# EAGLE library part LM3914 (library #PaJa_31)
Budic sloupce LED - linearni - bod/pas
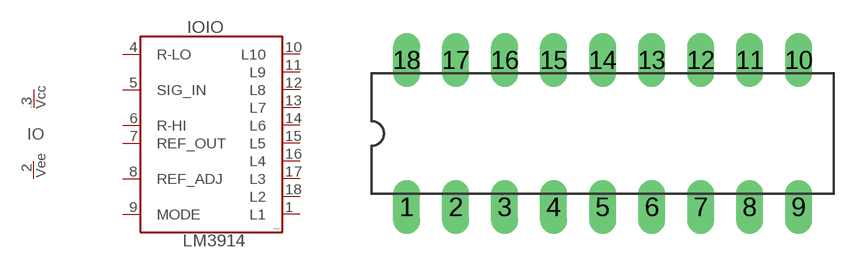
[diagram p39: symbol with the pads of DIL18A; footprint DIL18A]

Designator prefix IO; gates IO=LM3914 N=POWER_SY

## LM3914  [DIL18A]
1  IO:L1  out
2  N:VEE  pwr
3  N:VCC  pwr
4  IO:R-LO  in
5  IO:SIG_IN  in
6  IO:R-HI  in
7  IO:REF_OUT  out
8  IO:REF_ADJ  in
9  IO:MODE  in
10  IO:L10  out
11  IO:L9  out
12  IO:L8  out
13  IO:L7  out
14  IO:L6  out
15  IO:L5  out
16  IO:L4  out
17  IO:L3  out
18  IO:L2  out

## Footprint DIL18A (pad centres in mm)
drill 0.813 pad 1.4 long: 1 -10.16,-3.81; 2 -7.62,-3.81; 3 -5.08,-3.81; 4 -2.54,-3.81; 5 0,-3.81; 6 2.54,-3.81; 7 5.08,-3.81; 8 7.62,-3.81; 9 10.16,-3.81; 10 10.16,3.81; 11 7.62,3.81; 12 5.08,3.81; 13 2.54,3.81; 14 0,3.81; 15 -2.54,3.81; 16 -5.08,3.81; 17 -7.62,3.81; 18 -10.16,3.81